# EAGLE library part ADE7758 (library Skoba)
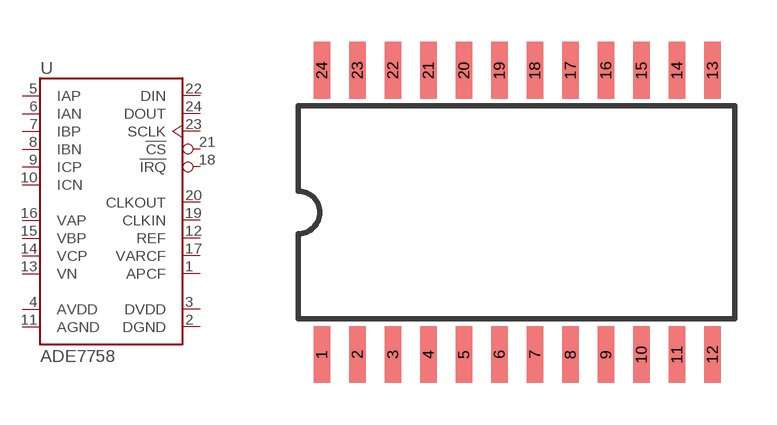
[diagram p7: symbol with the pads of SO-24DW; footprint SO-24DW]

Designator prefix U

## ADE7758  [SO-24DW]
1  APCF  out
2  DGND  pwr
3  DVDD  pwr
4  AVDD  pwr
5  IAP  in
6  IAN  in
7  IBP  in
8  IBN  in
9  ICP  in
10  ICN  in
11  AGND  pwr
12  REF
13  VN  in
14  VCP  in
15  VBP  in
16  VAP  in
17  VARCF  out
18  !IRQ  out
19  CLKIN  in
20  CLKOUT
21  !CS  in
22  DIN  in
23  SCLK  in
24  DOUT  out

## Footprint SO-24DW (pad centres in mm)
300-mil body, package type SO
smd 0.584 x 2.032: 1 -6.35,-5.08; 2 -5.08,-5.08; 3 -3.81,-5.08; 4 -2.54,-5.08; 5 -1.27,-5.08; 6 0,-5.08; 7 1.27,-5.08; 8 2.54,-5.08; 9 3.81,-5.08; 10 5.08,-5.08; 11 6.35,-5.08; 12 7.62,-5.08; 13 7.62,5.08; 14 6.35,5.08; 15 5.08,5.08; 16 3.81,5.08; 17 2.54,5.08; 18 1.27,5.08; 19 0,5.08; 20 -1.27,5.08; 21 -2.54,5.08; 22 -3.81,5.08; 23 -5.08,5.08; 24 -6.35,5.08